# Altium integrated library PTS636_SM43J_SMTR_LFS.IntLib: 1 symbol
Pins are listed as number, name and electrical type; pins without a type are passive.

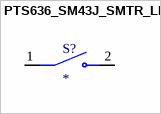
[diagram p0: symbol PTS636_SM43J_SMTR_LFS]

## PTS636_SM43J_SMTR_LFS
designator S?
Tactile Switch SPST-NO Top Actuated Surface Mount; MP: PTS636_SM43J_SMTR_LFS; Price: None; Value: *; Package: None; Availability: Unavailable
footprint SW_PTS636_SM43J_SMTR_LFS
pins: 1 COM, 2 NO